# Altium schematic symbol library StrommessplatineSchlib1.SchLib: 20 symbols
Pins are listed as number, name and electrical type; pins without a type are passive.

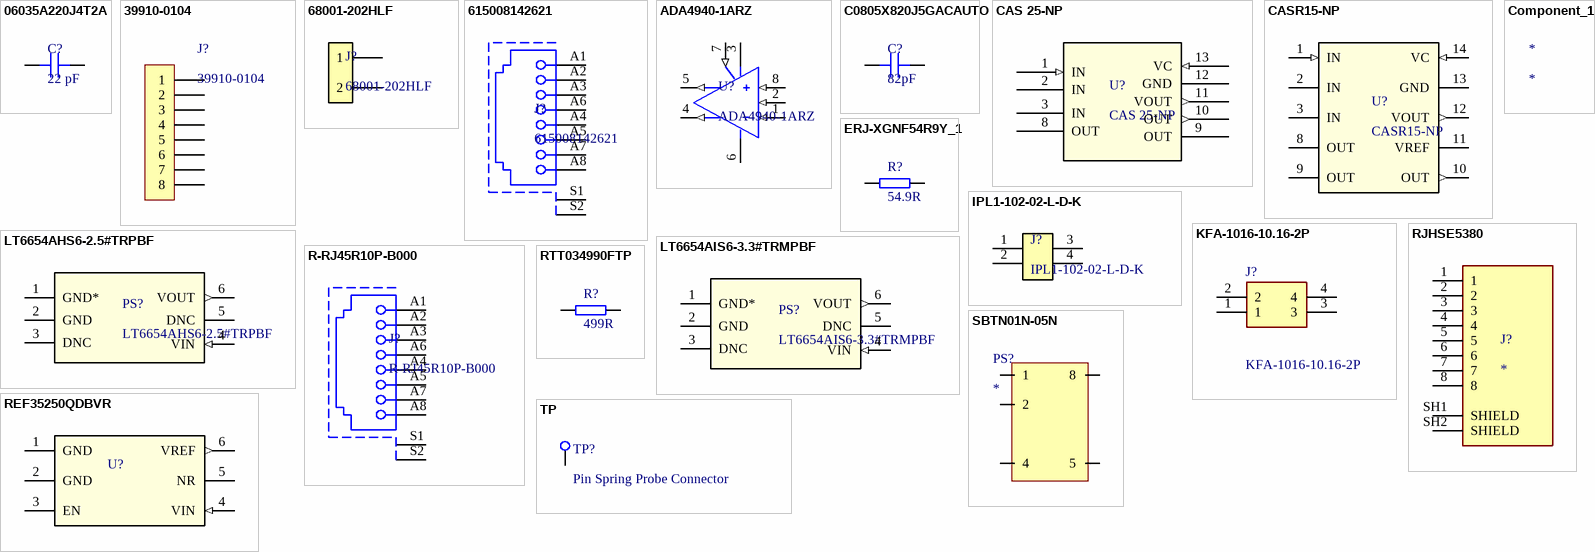
[diagram p0: symbols 06035A220J4T2A to TP]

## 06035A220J4T2A
designator C?, comment 22 pF
Capacitor 0603, 50 VDC, 22 pF, NP0; Manufacturer: Kyocera AVX; Manufacturer Part Number: 06035A220J4T2A; Capacitance: 22pF; Tolerance: 5%; Voltage Rating: 50V; Dielectric: C0G; Supplier 1: Arrow Electronics; Supplier Part Number 1: 06035A220J4T2A; RoHS: Yes; Category: Ceramic Capacitors; Stock 1: 6620; Pricing 1: 1=0,23930, 10=0,13710, 25=0,13570, 100=0,09300, 250=0,09210, 500=0,06780, 1000=0,05030, 3000=0,04980, 6000=0,02920 (USD); Mount: Surface Mount; Case/Package: 0603; Case Code (Imperial): 0603; Case Code (Metric): 1608; Contact Plating: Tin,Matte; Min Operating Temperature: -55°C; Max Operating Temperature: 125°C; Packaging: Tape and Reel; Package Quantity: 4000; Termination: SMD/SMT; Voltage Rating (DC): 50V; Series: -; Construction: Flat; Length: 1.6mm; Width: 0.032inch; Thickness: 0.035inch; Depth: 0.81mm; Ratings: AEC-Q200; Radiation Hardening: No; Lead Free: Lead Free; RoHS Compliant: Yes; ComponentLink1URL: https://datasheet.ciiva.com/5414/cauto-5414630.pdf?src-supplier=Mouser; ComponentLink1Description: https://datasheet.ciiva.com/5414/cauto-5414630.pdf?src-supplier=Mouser; ComponentLink2URL: https://datasheet.ciiva.com/6264/cauto-6264826.pdf?src-supplier=Digi-Key; ComponentLink2Description: https://datasheet.ciiva.com/6264/cauto-6264826.pdf?src-supplier=Digi-Key
footprint C0603
pins: 1, 2

## 39910-0104
designator J?
10.16mm Beau Eurostyle Fixed Mount PCB Terminal Block High Voltage High Power 60A 4 Circuits; Manufacturer: Molex; Supplier 1: Digi-Key; Supplier Part Number 1: WM5966-ND; Manufacturer Part Number: 39910-0104; RoHS: Yes; Category: Terminal Blocks; Stock 1: 845; Pricing 1: 1=14,50000, 10=12,75600, 25=12,03160, 50=11,45160, 100=11,23410, 250=9,78456, 500=9,42218, 1000=9,05979 (USD); ComponentLink1URL: https://datasheet.ciiva.com/5187/0399100104-terminal-blocks-167725-5187186.pdf?src-supplier=Mouser; ComponentLink1Description: https://datasheet.ciiva.com/5187/0399100104-terminal-blocks-167725-5187186.pdf?src-supplier=Mouser
footprint 39910-0104
pins: 1, 2, 3, 4, 5, 6, 7, 8

## 68001-202HLF
designator J?
Conn Unshrouded Header HDR 2 POS 2.54mm Solder ST Top Entry Thru-Hole BergStik® Bulk; Manufacturer: Amphenol ICC / FCI; Supplier 1: Mouser; Manufacturer Part Number: 68001-202HLF; RoHS: No; Category: Headers and Wire Housings; Stock 1: 20846; Pricing 1: 1=0,27000, 10=0,20700, 50=0,20700, 100=0,16400, 500=0,15700, 1000=0,12800, 2000=0,11700, 5000=0,11000, 10000=0,10600 (USD); ComponentLink1URL: http://uk.rs-online.com/webdocs/1450/0900766b81450c61.pdf?src-supplier=RSComponents; ComponentLink1Description: http://uk.rs-online.com/webdocs/1450/0900766b81450c61.pdf?src-supplier=RSComponents; ComponentLink2URL: https://cdn.amphenol-icc.com/media/wysiwyg/files/drawing/68000.pdf?src-supplier=Digi-Key; ComponentLink2Description: https://cdn.amphenol-icc.com/media/wysiwyg/files/drawing/68000.pdf?src-supplier=Digi-Key; ComponentLink3URL: http://www.farnell.com/datasheets/1914865.pdf?src-supplier=Newark; ComponentLink3Description: http://www.farnell.com/datasheets/1914865.pdf?src-supplier=Newark; ComponentLink4URL: https://www.alliedelec.com/m/d/f866699523b3cedee69b8cd6f03387a4.pdf?src-supplier=Allied+Electronics; ComponentLink4Description: https://www.alliedelec.com/m/d/f866699523b3cedee69b8cd6f03387a4.pdf?src-supplier=Allied+Electronics; ComponentLink5URL: http://www.mouser.com/ds/2/154/68000-274373.pdf?src-supplier=Mouser; ComponentLink5Description: http://www.mouser.com/ds/2/154/68000-274373.pdf?src-supplier=Mouser; ComponentLink6URL: http://portal.fciconnect.com/Comergent/fci/drawing/68000.pdf?src-supplier=Avnet; ComponentLink6Description: http://portal.fciconnect.com/Comergent/fci/drawing/68000.pdf?src-supplier=Avnet; ComponentLink7URL: http://components.arrow.com/part/dataview/41914267S7424571N8314?src-supplier=Arrow+Electronics; ComponentLink7Description: http://components.arrow.com/part/dataview/41914267S7424571N8314?src-supplier=Arrow+Electronics
footprint 68001-202HLF
pins: 1, 2

## 615008142621
designator J?
WR-MJ; Cat5 RJ45 Modular Jack Socket; STP; Horizontal; PCB Mount 615008 Series; Manufacturer: Wurth Electronics; Shielding: Shielded; Number of Ports: 1; Direction: Down; Number of Positions: 8; Current Rating: 1.5A; Voltage Rating (AC): 120V; Gender: Female; Insulation Resistance: 500MR; Supplier 1: RSComponents; Supplier Part Number 1: 8183327; Manufacturer Part Number: 615008142621; RoHS: Yes; Category: Connectors; Stock 1: 1; Pricing 1: 1=3,00600, 15=2,69900, 50=2,40500, 100=2,24500, 250=2,11100 (USD); Mount: Through Hole; Number of Pins: 8; Contact Material: Copper Alloy; Housing Material: PBT; Contact Plating: Gold; Weight: 0.204589oz; Min Operating Temperature: -40°C; Max Operating Temperature: 85°C; Package Quantity: 80; Number of Rows: 1; Packaging: Tray; Termination: Through Hole; Connector Type: Jack; Series: WR_COM; Flammability Rating: UL94 V-0; RoHS Compliant: Yes; ComponentLink1URL: https://datasheet.ciiva.com/685/615008142621-685839.pdf?src-supplier=Digi-Key; ComponentLink1Description: https://datasheet.ciiva.com/685/615008142621-685839.pdf?src-supplier=Digi-Key
footprint 615008142621
pins: A1, A2, A3, A4, A5, A6, A7, A8, S1, S2

## ADA4940-1ARZ
designator U?
IC OPAMP DIFF 260MHZ 8SOIC; Manufacturer: Analog Devices; Slew Rate: 95V/µs; Input Offset Voltage (Vos): 60uV; Common Mode Rejection Ratio: 86dB; Number of Channels: 1; Max Supply Voltage: 6V; Min Supply Voltage: 3V; Operating Supply Voltage: 5V; Power Supply Rejection Ratio (PSRR): 80dB; Input Bias Current: 1.1uA; Operating Supply Current: 1.18mA; Output Current per Channel: 46mA; Input Resistance: 50MR; Test Frequency: 50kHz; Amplifier Type: DIFFERENTIAL; Nominal Supply Current: 1.25mA; Settling Time: 34ns; Max Supply Current: 13.5uA; Manufacturer Part Number: ADA4940-1ARZ; RoHS: Yes; Category: Amplifiers - Op Amps, Buffer, Instrumentation; Stock 1: 3938; Pricing 1: 1=5,14000, 10=4,62000, 50=4,37000, 100=3,78000, 1000=3,21000, 10000=2,74000 (USD); Case/Package: SOIC; Number of Pins: 8; Contact Plating: Tin,Matte; Min Operating Temperature: -40°C; Max Operating Temperature: 125°C; Package Quantity: 98; -3db Bandwidth: 260MHz; Packaging: Rail/Tube; Number of Circuits: 1; Gain Bandwidth Product: 260MHz; Number of Elements: 1; Quiescent Current: 1.18mA; Series: -; Bandwidth: 260MHz; Number of Amplifiers: 1; Supply Current: 1.25mA; Length: 5mm; Width: 4mm; Height: 1.5mm; Radiation Hardening: No; Lead Free: Contains Lead; RoHS Compliant: Yes; REACH SVHC: No SVHC; ComponentLink1URL: https://datasheet.ciiva.com/1578/ada4940-1-4940-2-1578032.pdf?src-supplier=Newark; ComponentLink1Description: https://datasheet.ciiva.com/1578/ada4940-1-4940-2-1578032.pdf?src-supplier=Newark; ComponentLink2URL: https://datasheet.ciiva.com/15129/getdatasheetpartid-486836-15129044.pdf?src-supplier=Verical; ComponentLink2Description: https://datasheet.ciiva.com/15129/getdatasheetpartid-486836-15129044.pdf?src-supplier=Verical; ComponentLink3URL: https://datasheet.ciiva.com/1485/1790104-1485202.pdf?src-supplier=Element14; ComponentLink3Description: https://datasheet.ciiva.com/1485/1790104-1485202.pdf?src-supplier=Element14; ComponentLink4URL: https://datasheet.ciiva.com/8036/1790104-8036687.pdf?src-supplier=Element14; ComponentLink4Description: https://datasheet.ciiva.com/8036/1790104-8036687.pdf?src-supplier=Element14; ComponentLink5URL: https://datasheet.ciiva.com/2965/ada4940-1-4940-2-2965446.pdf?src-supplier=Avnet; ComponentLink5Description: https://datasheet.ciiva.com/2965/ada4940-1-4940-2-2965446.pdf?src-supplier=Avnet; ComponentLink6URL: https://datasheet.ciiva.com/1808/ada4940-1-4940-2-1808830.pdf?src-supplier=Digi-Key; ComponentLink6Description: https://datasheet.ciiva.com/1808/ada4940-1-4940-2-1808830.pdf?src-supplier=Digi-Key; Supplier 1: Mouser; Supplier Part Number 1: 584-ADA4940-1ARZ
footprint ADA4940-1ARZ-R7
pins: 1 - (in), 2 OCM (in), 3 V+, 4 OUT (out), 5 OUT (out), 6 V-, 7 EN (in), 8 + (in)

## C0805X820J5GACAUTO
designator C?, comment 82pF
Cap Ceramic 82pF 50V C0G 5% SMD 0805 125°C Paper T/R; Manufacturer: KEMET; Manufacturer Part Number: C0805X820J5GACAUTO; Supplier 1: Mouser; RoHS: Yes; Category: Ceramic Capacitors; Stock 1: 3758; Pricing 1: 1=0,38000, 10=0,27000, 50=0,27000, 100=0,16200, 1000=0,10200, 10000=0,09100 (USD); RoHS Compliant: Yes
footprint C0805
pins: 1, 2

## CAS 25-NP
designator U?
Current Sensor 25A 1 Channel Flux Gate, Closed Loop Bidirectional Module; Mfr_Name: LEM; Copyright: Copyright (C) 2022 Ultra Librarian. All rights reserved.; Manufacturer_Part_Number: CAS 25-NP; Digi-Key_Part_Number_1: 398-1089-5-ND; RefDes: RefDes; Type: DEV; Supplier 1: Digi-Key; Supplier Part Number 1: 398-1089-5-ND
footprint CAS X-NP
pins: 1 IN (in), 2 IN, 3 IN, 8 OUT, 9 OUT, 10 OUT (out), 11 VOUT (out), 12 GND, 13 VC (in)

## CASR15-NP
designator U?
Sensor Current Flux 15A Ac/dc; Manufacturer: LEM; Frequency: 300kHz; Number of Channels: 1; Response Time: 0.3us; Max Supply Current: 20mA; Polarity: Bidirectional; Linearity: 1%; Accuracy: 0.8%; Operating Supply Voltage: 5.25V; Min Supply Voltage (DC): 4.75V; Sensitivity: 41.67mV/A; Overall Height: 16.5mm; Overall Depth: 13.4mm; Supplier 1: Digi-Key; Supplier Part Number 1: 398-1092-ND; Manufacturer Part Number: CASR15-NP; RoHS: Yes; Category: Current Sensors; Stock 1: 548; Pricing 1: 1=17,07000, 5=16,72600, 10=13,93800, 25=12,89280, 50=12,54420, 100=10,80200, 450=10,10504, 950=9,58238 (USD); Mount: Through Hole,PCB; Case/Package: Module; Min Operating Temperature: -40°C; Max Operating Temperature: 85°C; Package Quantity: 50; Packaging: Rail/Tube; Current Sensing: 15A; Series: CASR; Max Supply Voltage (DC): 5.25V; RoHS Compliant: Yes; REACH SVHC: No SVHC; ComponentLink1URL: https://datasheet.ciiva.com/2812/casrseries-2812487.pdf?src-supplier=Digi-Key; ComponentLink1Description: https://datasheet.ciiva.com/2812/casrseries-2812487.pdf?src-supplier=Digi-Key
footprint CASR X-NP
pins: 1 IN (in), 2 IN, 3 IN, 8 OUT, 9 OUT, 10 OUT (out), 11 VREF, 12 VOUT (out), 13 GND, 14 VC (in)

## Component_1
designator *

## ERJ-XGNF54R9Y_1
designator R?, comment 54.9R
Res Thick Film 01005 54.9 Ohm 1% 0.031W(1/32W) ±300ppm/°C Molded SMD Pressed Carrier T/R; Manufacturer: Panasonic; Manufacturer Part Number: ERJ-XGNF54R9Y; Power Rating: 31mW; Voltage Rating: 15V; Supplier 1: Mouser; Supplier Part Number 1: 667-ERJ-XGNF54R9Y; RoHS: Yes; Category: Chip SMD Resistors; Stock 1: 14261; Pricing 1: 1=0,52000, 10=0,37400, 50=0,37400, 100=0,15000, 1000=0,07400, 10000=0,06200 (USD); Mount: Surface Mount; Case/Package: Molded; Case Code (Metric): 0402; Case Code (Imperial): 1005; Min Operating Temperature: -55°C; Max Operating Temperature: 125°C; Termination: SMD/SMT; Temperature Coefficient: 300ppm/°C; Resistor Type: Thick Film; Resistance: 54.9R; Packaging: Tape and Reel; Tolerance: 1%; Package Quantity: 20000; Length: 0.4mm; Width: 0.2mm; Height: 0.13mm; ComponentLink1URL: http://www.onlinecomponents.com/datasheet/erj-xgnf54r9y.aspx?p=44478308&src-supplier=Onlinecomponents.com; ComponentLink1Description: http://www.onlinecomponents.com/datasheet/erj-xgnf54r9y.aspx?p=44478308&src-supplier=Onlinecomponents.com; ComponentLink2URL: http://www.mouser.com/ds/2/315/AOA0000CE2-37512.pdf?src-supplier=Mouser; ComponentLink2Description: http://www.mouser.com/ds/2/315/AOA0000CE2-37512.pdf?src-supplier=Mouser
footprint R0805
pins: 1, 2

## IPL1-102-02-L-D-K
designator J?
.100" Mini Mate® Isolated Power Terminal Header; Manufacturer: Samtec; Number of Terminals/Pins: 4; Gender: Male; Max Current Rating: 7.4A; Connector Type: Rectangular; Number of Ports: 1; Pitch: 2.54mm; Row Spacing: 0.1inch; Supplier 1: Arrow Electronics; Manufacturer Part Number: IPL1-102-02-L-D-K; RoHS: Yes; Category: Headers and Wire Housings; Stock 1: 87; Pricing 1: 1=4,26000, 50=3,48000, 100=2,95000 (USD); Mount: Surface Mount; Housing Material: Polymer; Color: Natural; Contact Material: Bronze; Contact Plating: Gold; Min Operating Temperature: -55°C; Max Operating Temperature: 125°C; Termination: Solder; Orientation: Straight; Packaging: Rail/Tube; Number of Contacts: 4; Number of Rows: 2; Fastening Type: Ramp; Number of Positions: 4; Series: Mini Mate® IPL1; Contact Type: Male Pin; Length: 6.6mm; Depth: 9.58mm; Contact Mating Length: 0.215inch; Radiation Hardening: No; RoHS Compliant: Yes; REACH SVHC: No SVHC; ComponentLink1URL: https://datasheet.ciiva.com/739/ipl1-1xx-xx-xxx-d-xx-x-mkt-739345.pdf?src-supplier=Digi-Key; ComponentLink1Description: https://datasheet.ciiva.com/739/ipl1-1xx-xx-xxx-d-xx-x-mkt-739345.pdf?src-supplier=Digi-Key; ComponentLink2URL: https://datasheet.ciiva.com/14488/ipl1-14488233.pdf?src-supplier=Farnell; ComponentLink2Description: https://datasheet.ciiva.com/14488/ipl1-14488233.pdf?src-supplier=Farnell
footprint IPL1-102-02-L-D-K-0
pins: 1, 2, 3, 4

## KFA-1016-10.16-2P
designator J?
1x2P -40+105 65A 300V Gray 626 Straight 10.16mm 10 1 2 PluginP10.16mm  Screw terminal ROHS; Manufacturer: CIXI KEFA ELECTRONICS; Geometry.Height: 29mm; Manufacturer Part Number: KFA-1016-10.16-2P; Mouser Part Number: *; Mouser Price/Stock: *; Arrow Part Number: *; Arrow Price/Stock: *; Datasheet Link: https://a3.ldycdn.com/KFA-1016-10.16-aidqlBpqKirRljSronnloloj.pdf; LCSC Part Number: C475110
footprint KFA-1016-10.16-2P
pins: 1, 2, 3, 4

## LT6654AHS6-2.5#TRPBF
designator PS?
IC VREF SERIES 2.5V TSOT23-6; Manufacturer: Analog Devices / Linear Technology; Tolerance: 0.05%; Output Current: 10mA; Temperature Coefficient: 10ppm/°C; Operating Supply Current: 600uA; Output Type: Fixed; Supplier 1: Mouser; Supplier Part Number 1: 584-6654AHS6-2.5TPF; Manufacturer Part Number: LT6654AHS6-2.5#TRPBF; RoHS: Yes; Category: Voltage References; Stock 1: 177; Pricing 1: 1=7,17000, 10=6,48000, 50=6,17000, 100=5,36000, 1000=4,26000, 10000=4,25000 (USD); Mount: Surface Mount; Case/Package: SOT-23-6; Number of Pins: 6; Min Operating Temperature: -40°C; Max Operating Temperature: 125°C; Packaging: Tape and Reel; Package Quantity: 2500; Min Output Voltage: 2.5V; Max Output Voltage: 2.5V; Reference Type: Series; Series: -; RoHS Compliant: Yes; ComponentLink1URL: https://datasheet.ciiva.com/2010/29677-2010606.pdf?src-supplier=Digi-Key; ComponentLink1Description: https://datasheet.ciiva.com/2010/29677-2010606.pdf?src-supplier=Digi-Key
footprint LT6654AHS6-2.5#TRPBF
pins: 1 GND* (power), 2 GND (power), 3 DNC, 4 VIN (in), 5 DNC, 6 VOUT (out)

## LT6654AIS6-3.3#TRMPBF
designator PS?
V-Ref Precision 3.3V 10mA Automotive 6-Pin TSOT-23 T/R; Manufacturer: Analog Devices / Linear Technology; Supplier 1: Mouser; Supplier Part Number 1: 584-6654AIS633TRMPBF; Manufacturer Part Number: LT6654AIS6-3.3#TRMPBF; RoHS: Yes; Category: Voltage References; Stock 1: 456; Pricing 1: 1=6,49000, 10=5,86000, 50=5,59000, 100=4,85000, 1000=4,22000, 10000=4,22000 (USD); ComponentLink1URL: http://www.linear.com/docs/29441?src-supplier=Digi-Key; ComponentLink1Description: http://www.linear.com/docs/29441?src-supplier=Digi-Key
footprint LT6654AIS6-3.3#TRMPBF
pins: 1 GND* (power), 2 GND (power), 3 DNC, 4 VIN (in), 5 DNC, 6 VOUT (out)

## R-RJ45R10P-B000
designator J?
RJ45Receptacle 1 Shielded Bend insert Without LED 0℃~+70℃ Plugin Ethernet Connectors / Modular Connectors (RJ45 RJ11) ROHS
footprint R-RJ45R10P-B000 (RJ45Receptacle 1 Shielded Bend insert Without LED 0℃~+70℃ Plugin Ethernet Connectors / Modular Connectors (RJ45 RJ11) ROHS)
pins: A1, A2, A3, A4, A5, A6, A7, A8, S1, S2

## REF35250QDBVR
designator U?
2.5V ±0.05% 2.75V~6V 10mA Fixed SOT-23-6 Voltage Reference ROHS
footprint REF35250QDBVR (IC VREF SERIES SOT23-6)
pins: 1 GND (power), 2 GND (power), 3 EN, 4 VIN (in), 5 NR, 6 VREF (out)

## RJHSE5380
designator J?
RJ45Receptacle 1 Shielded Bend insert Gold Phosphor Bronze Without LED -55℃~+85℃ Plugin Ethernet Connectors / Modular Connectors (RJ45 RJ11) ROHS; Manufacturer: Amphenol ICC; Manufacturer Part Number: RJHSE5380; LCSC Part Number: C464586; Package: Plugin; Category: Connectors/Ethernet Connectors / Modular Connectors (RJ45 RJ11)
footprint AMPHENOL_RJHSE5380
pins: 1, 2, 3, 4, 5, 6, 7, 8, SH1 SHIELD, SH2 SHIELD

## RTT034990FTP
designator R?, comment 499R
100mW Thick Film Resistors 75V ±100ppm/℃ ±1% 499Ω 0603 Chip Resistor - Surface Mount ROHS; Manufacturer: RALEC; Manufacturer Part Number: RTT034990FTP; Supplier 1: Mouser; Supplier Part Number 1: 667-ERJ-XGNF54R9Y; RoHS: Yes; Category: Thick Film Resistors; Max Operating Temperature: 155°C; Termination: SMD/SMT; Resistor Type: Thick Film; Resistance: 499R; Packaging: Tape and Reel; Power Rating: 100mW; Tolerance: 1%; Package Quantity: 20000; ComponentLink1URL: http://www.onlinecomponents.com/datasheet/erj-xgnf54r9y.aspx?p=44478308&src-supplier=Onlinecomponents.com; ComponentLink1Description: http://www.onlinecomponents.com/datasheet/erj-xgnf54r9y.aspx?p=44478308&src-supplier=Onlinecomponents.com; ComponentLink2URL: http://www.mouser.com/ds/2/315/AOA0000CE2-37512.pdf?src-supplier=Mouser; ComponentLink2Description: http://www.mouser.com/ds/2/315/AOA0000CE2-37512.pdf?src-supplier=Mouser; LCSC Part Number: C103675
footprint R0603
pins: 1, 2

## SBTN01N-05N
designator PS?
DC/DC 24V/5V Converter; Manufacturer: Mean Well; Manufacturer Part Number: SBTN01N-05N; Supplier 1: Mouser; Supplier Part Number 1: 709-SBTN01N-05N; Stock 1: 58; Pricing 1: 1=4,54000, 10=4,42000, 25=4,29000, 50=4,29000, 100=4,29000, 120=4,02000, 280=3,89000, 520=3,63000, 1000=3,50000, 2880=3,45000, 5760=3,25000, 10000=3,50000 (USD)
pins: 0 1, 1 2, 3 4, 5 8, 8 5

## TP
designator TP?, comment Pin Spring Probe Connector
Pin Spring Probe Connector SMT Micro Miniature
footprint Pin Spring Probe Connector (Pogo Pin Spring Probe Connector ROHS / TEST POINTS ON TAPE & REEL MICRO MINIATURE)
pins: 1 TP